# Altium schematic symbol library 5k1 resistor 0805FR-075K1L.SchLib: 1 symbol
Pins are listed as number, name and electrical type; pins without a type are passive.

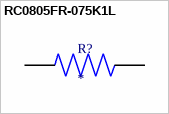
[diagram p0: symbol RC0805FR-075K1L]

## RC0805FR-075K1L
designator R?
Resistor: thick film; SMD; 0805; 5.1kÎ©; 0.125W; Â±1%; -55Ã·155Â°C; MP: RC0805FR-075K1L; Package: None; Price: None; Value: *; Availability: Unavailable
footprint RESC2012X60N
pins: 1, 2